# Altium footprint library Inductor_PcbLib.PcbLib: 11 footprints
Each footprint in its own frame and in the unit in brackets; x right, y up, seen from the top. Pads: shape width x height; smd on the part's side, far side on the other; paste and mask are expansions set on the pad; w line width, h text height; cw(c..) or ccw(c..) is an arc to the next point about the centre after c.
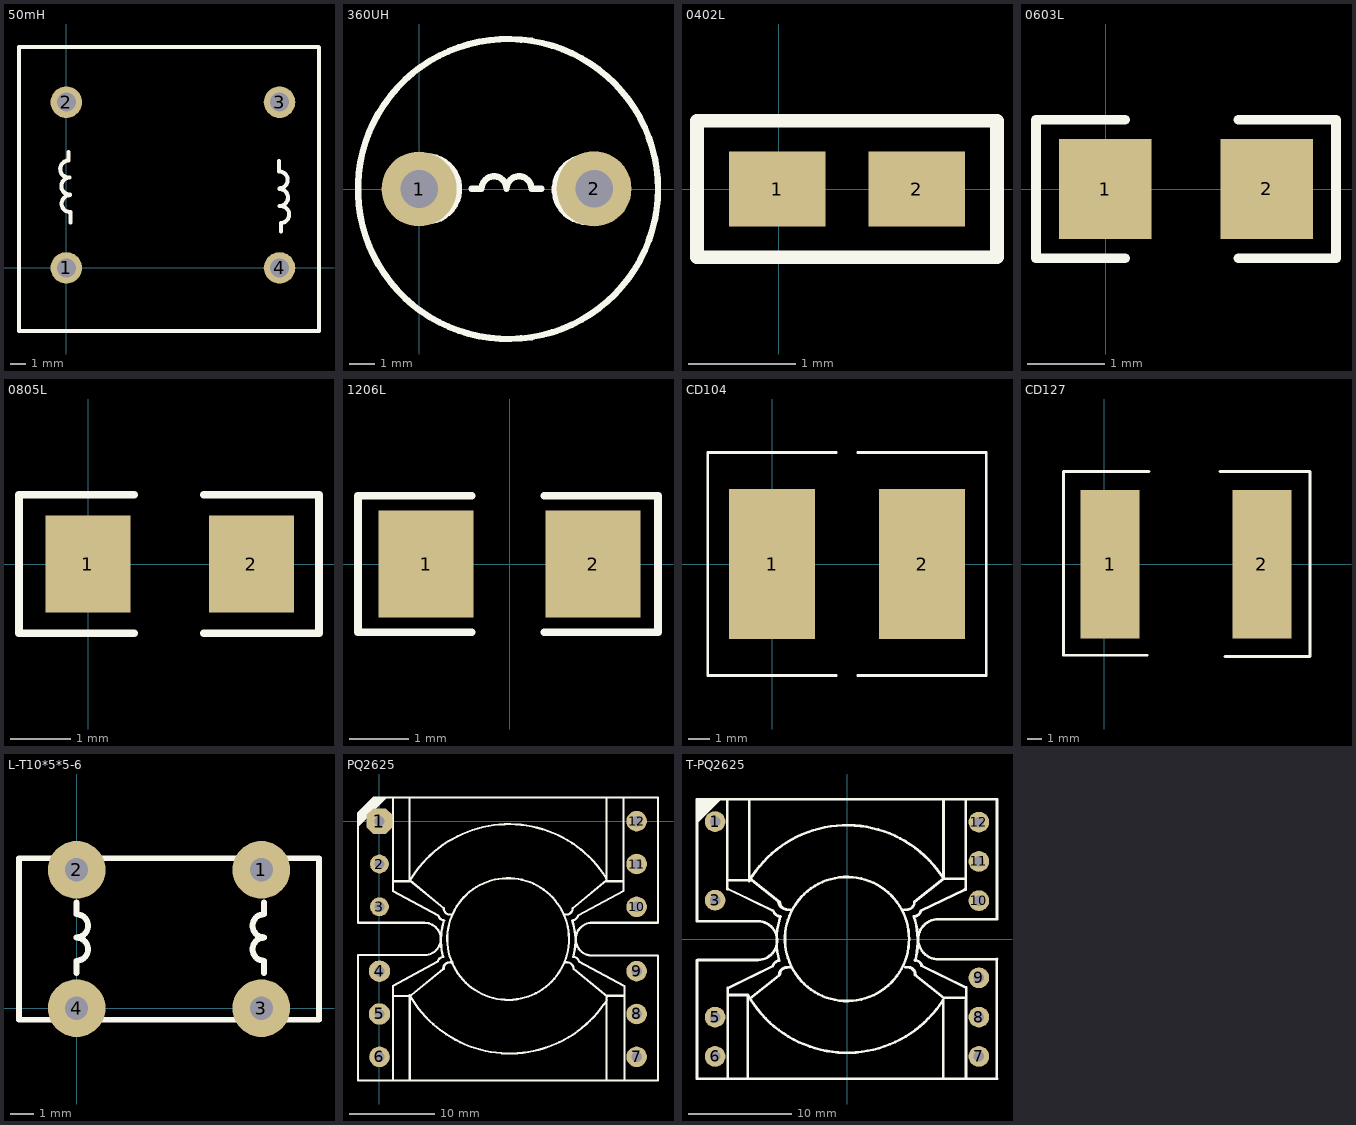
[diagram p0: the footprints below, top view; thin cyan lines are the x and y axes]

## 50mH [mm] "共模电感"
pads (4):
  round 2 hole 1.2: 1(0,0) 2(0,10.5) 3(13.5,10.5) 4(13.5,0)
Top Overlay:
  lines w0.254: 0.138,7.356 0.138,6.803 ccw(c0.148,6.266) 0.159,5.729 ; 0.208,5.723 ccw(c0.218,5.186) 0.229,4.649 ; 0.228,4.613 ccw(c0.238,4.076) 0.249,3.539 0.249,2.878 ; 13.467,6.774 13.467,6.113 cw(c13.478,5.576) 13.488,5.039 ; 13.487,5.003 cw(c13.498,4.466) 13.508,3.929 ; 13.557,3.923 cw(c13.568,3.386) 13.578,2.849 13.578,2.296 ; -3,-4 -3,14 13.932,14 15.972,14 16,13.972 16,-4 -3,-4

## 360UH [mm]
pads (2):
  round 3 hole 1.5: 1(0,0) 2(6.998,0.007)
Top Overlay:
  circle w0.254: c3.556,0 r6
  lines w0.254: 0.298,-1.293 ccw(c0.298,0.007) 0.298,1.307 ; 2.098,0.007 2.498,0.007 cw(c2.998,0.007) 3.498,0.007 cw(c3.998,0.007) 4.498,0.007 4.898,0.007 ; 6.729,-1.319 cw(c6.729,-0.019) 6.729,1.281

## 0402L [mm] "Chip Capacitor; Body 1.0 x 0.5 mm (LxW typ)"
height 0.55
pads (2):
  rect 0.9x0.7 smd: 1(-0.015,0) 2(1.285,0)
Top Overlay:
  lines w0.127: -0.762,-0.635 2.032,-0.635 2.032,0.635 -0.762,0.635 -0.762,0.135 -0.762,-0.635

## 0603L [mm]
pads (2):
  rect 1.2x1.3 smd: 1(-0.006,0.002) 2(2.094,0.002)
Top Overlay:
  lines w0.127: 0.254,-0.898 -0.906,-0.898 -0.906,0.902 0.254,0.902 ; 1.727,-0.898 2.994,-0.898 2.994,0.902 1.727,0.902

## 0805L [mm]
pads (2):
  rect 1.4x1.6 smd: 1(-0.006,-0.001) 2(2.694,-0.001)
Top Overlay:
  lines w0.127: 0.762,-1.143 -1.143,-1.143 -1.143,1.143 0.762,1.143 ; 1.905,-1.143 3.81,-1.143 3.81,1.143 1.905,1.143

## 1206L [mm] "Chip Capacitor; Body 3.2 x 1.6 mm (LxW typ)"
height 1.3
pads (2):
  rect 1.6x1.8 smd: 1(-1.4,0) 2(1.4,0)
Top Overlay:
  lines w0.127: -0.635,-1.143 -2.54,-1.143 -2.54,1.143 -0.635,1.143 ; 0.584,-1.143 2.489,-1.143 2.489,1.143 0.584,1.143

## CD104 [mm]
pads (2):
  rect 4x7 smd: 1(0,0) 2(7,0)
Top Overlay:
  lines w0.127: 3,-5.2 -3,-5.2 -3,5.2 3,5.2 ; 4,-5.2 10,-5.2 10,5.2 4,5.2

## CD127 [mm]
pads (2):
  rect 4x10 smd: 1(0.4,-0.005) 2(10.662,-0.005)
Top Overlay:
  lines w0.2: -2.749,-6.152 2.915,-6.152 ; -2.749,6.248 3.047,6.248 ; 7.821,6.247 13.913,6.247 ; 8.173,-6.228 13.913,-6.228
  lines w0.203: -2.749,-6.152 -2.749,6.248 ; 13.913,-6.228 13.913,6.247

## L-T10*5*5-6 [mm]
pads (4):
  round 2.5 hole 1: 1(8.006,5.991) 2(0.006,5.991) 3(8.006,-0.009) 4(0.006,-0.009)
Top Overlay:
  lines w0.254: 0,1.524 0,2.024 ; 0,2.048 ccw(c0,2.548) 0,3.048 ; 0,3.064 ccw(c0,3.564) 0,4.064 ; 0,4.072 0,4.572 ; 8.128,1.524 8.128,2.024 ; 8.128,2.048 cw(c8.128,2.548) 8.128,3.048 ; 8.128,3.064 cw(c8.128,3.564) 8.128,4.064 ; 8.128,4.072 8.128,4.572 ; -2.494,-0.509 -2.494,6.491 10.506,6.491 10.506,-0.509 -2.494,-0.509

## PQ2625 [mm] "高频变压器"
pads (12):
  oct 3x3 hole 1.2: 1(0.011,0.003)
  round 2.2 hole 1.2: 2(0.011,-4.997) 3(0.011,-9.997)
  round 2.5 hole 1.2: 4(0.011,-17.497) 5(0.011,-22.497)
  round 2.4 hole 1.2: 6(0.011,-27.497) 7(30.011,-27.497) 8(30.011,-22.497) 9(30.011,-17.497) 10(30.011,-9.997) 11(30.011,-4.997) 12(30.011,0.003)
Top Overlay:
  lines w0.254: -2.494,-15.654 -2.494,-30.247 2.096,-30.247 27.926,-30.247 32.506,-30.247 32.506,-15.709 ; -2.494,-15.617 5.282,-15.617 ccw(c5.282,-13.737) 5.282,-11.858 -2.494,-11.858 -2.494,-0.25 ; -2.494,-0.496 0.755,2.753 1.029,2.753 ; 1.574,-30.247 1.574,-19.249 6.806,-16.379 cw(c7.531,-16.573) 7.443,-15.828 ; 1.574,-20.392 3.431,-20.392 ; 1.574,-7.006 3.507,-7.006 3.516,2.727 ; 1.574,2.702 1.574,-8.124 6.883,-11.02 ccw(c7.607,-10.825) 7.562,-11.574 ccw(c14.537,-13.899) 7.444,-15.836 ; 2.876,2.753 3.593,2.753 ; 3.498,-20.485 7.431,-17.241 cw(c8.181,-17.241) 8.181,-16.491 8.432,-16.491 ; 3.539,-30.247 3.539,-20.289 ccw(c15.208,-13.701) 26.533,-20.863 ; 7.507,-17.211 cw(c8.257,-17.211) 8.257,-16.461 8.508,-16.461 ; 8.508,-10.907 8.257,-10.907 cw(c8.257,-10.157) 7.507,-10.157 3.575,-6.914 cw(c15.102,-13.746) 26.47,-6.652 ; 21.549,-10.907 21.801,-10.907 ccw(c21.801,-10.157) 22.551,-10.157 26.483,-6.914 ; 21.646,-16.461 21.898,-16.461 cw(c21.898,-17.211) 22.648,-17.211 26.58,-20.455 ; 21.934,-12.142 ccw(c15.018,-13.747) 21.974,-12.324 ; 22.593,-15.794 cw(c22.547,-16.543) 23.272,-16.349 28.58,-19.244 28.58,-30.241 ; 22.614,-15.836 ccw(c15.52,-13.899) 22.496,-11.574 ccw(c22.45,-10.825) 23.175,-11.02 28.484,-8.124 28.483,2.738 ; 26.511,-30.216 26.511,-20.367 ; 26.511,-7.006 26.511,2.722 ; 26.551,-7.006 28.483,-7.006 ; 26.648,-20.362 28.58,-20.362 ; 32.506,-15.693 24.917,-15.691 cw(c24.831,-13.768) 24.893,-11.844 32.506,-11.844 32.506,2.753 27.926,2.753 16.386,2.753 13.636,2.753 2.096,2.753 0.509,2.753 ; -2.494,-0.25 -2.494,-0.013 ; -2.494,-0.25 0.509,2.753 ; -2.494,-0.013 -2.494,0.215 ; -2.494,-0.013 0.272,2.753 ; -2.494,0.215 -2.494,0.469 ; -2.494,0.215 0.043,2.753 ; -2.494,0.469 -2.494,0.698 ; -2.494,0.469 -0.211,2.753 ; -2.494,0.698 -2.494,0.926 -0.668,2.753 -0.439,2.753 ; -2.494,0.698 -0.439,2.753 ; -0.439,2.753 -0.211,2.753 ; -0.211,2.753 0.043,2.753 ; 0.043,2.753 0.272,2.753 ; 0.272,2.753 0.509,2.753

## T-PQ2625 [mm]
pads (28):
  round 2 hole 1: 1(-12.75,11.35) 3(-12.75,3.75) 5(-12.75,-7.55) 6(-12.75,-11.35) 7(12.75,-11.35) 8(12.75,-7.55) 9(12.75,-3.75) 10(12.75,3.7) 11(12.75,7.5) 12(12.75,11.3)
  round 0 all layers, no hole: 2(-12.75,7.55) 4(-12.75,-3.75) 4(-12.75,-3.75) 4(12.75,-3.75) 4(12.75,11.3) 4(12.8,3.75) 5(-12.75,-7.55) 5(12.75,-7.55) 5(12.75,7.5) 5(12.8,7.55) 6(-12.75,-11.35) 6(12.75,-11.35) 6(12.75,3.7) 6(12.8,11.35) 9(12.75,-3.75) 10(12.75,3.75) 11(12.75,7.55) 12(12.75,11.55)
Top Overlay:
  circle w0.254: c0,0 r6
  lines w0.254: -14.5,-2.057 -14.5,-13.5 14.5,-13.5 ; -14.5,11.328 -14.491,11.328 -12.344,13.475 -12.916,13.475 -14.478,11.913 -14.478,12.192 -13.208,13.462 -13.437,13.462 -14.427,12.471 -14.427,12.738 -13.665,13.5 -13.881,13.5 -14.453,12.929 -14.453,13.208 -14.224,13.437 ; -14.5,11.608 -14.491,11.608 -12.598,13.5 ; -14.453,-2.032 -8.636,-2.032 ccw(c-8.636,-0.152) -8.636,1.727 -14.5,1.727 -14.5,13.5 14.5,13.5 14.5,1.905 ; -13.063,13.477 -12.789,13.477 ; -11.582,5.609 -11.582,13.5 ; -11.575,4.833 -11.575,6.147 ; -11.532,-13.5 -11.532,-5.461 -11.478,-5.408 -9.579,-5.408 ; -11.524,-6.02 -11.524,-4.706 ; -11.506,5.69 -9.331,5.69 ; -11.502,4.831 -7.249,2.779 ; -11.451,-4.704 -7.198,-2.652 ; -9.579,-13.497 -9.579,-5.408 ; -9.474,13.5 -9.463,13.488 -9.463,5.609 cw(c0,0) 9.332,5.824 ; -9.432,5.871 -6.625,3.653 -6.625,3.641 ccw(c-5.875,3.641) -5.875,2.891 ; -9.381,-5.744 -6.574,-3.526 -6.574,-3.514 cw(c-5.824,-3.514) -5.824,-2.764 ; -7.189,-2.632 cw(c-6.464,-2.826) -6.552,-2.081 ; -7.113,2.728 ccw(c-6.388,2.922) -6.434,2.173 ccw(c0.542,-0.152) -6.551,-2.088 ; -6.565,-3.494 cw(c-5.815,-3.494) -5.815,-2.744 -5.563,-2.744 ; -6.489,-3.464 cw(c-5.739,-3.464) -5.739,-2.714 -5.487,-2.714 ; -6.489,3.59 ccw(c-5.739,3.59) -5.739,2.84 -5.487,2.84 ; 5.522,2.84 5.773,2.84 ccw(c5.773,3.59) 6.524,3.59 6.524,3.603 9.33,5.82 ; 5.619,-2.714 5.87,-2.714 cw(c5.87,-3.464) 6.62,-3.464 ; 5.824,-2.713 cw(c5.824,-3.463) 6.574,-3.463 6.574,-3.476 9.381,-5.693 ; 6.565,-2.047 cw(c6.52,-2.795) 7.244,-2.601 ; 6.586,-2.088 ccw(c-0.507,-0.152) 6.469,2.173 ccw(c6.423,2.922) 7.148,2.728 ; 9.297,-13.499 9.297,-5.879 cw(c0,0) -9.579,-5.408 ; 9.332,13.49 9.332,5.824 ; 9.382,-5.697 11.524,-5.697 ; 10.236,5.817 10.236,5.824 ; 10.287,-5.697 10.287,-5.69 ; 11.4,4.78 7.148,2.728 ; 11.451,-4.653 7.198,-2.601 ; 11.473,4.783 11.473,6.096 ; 11.473,13.493 11.473,5.824 9.332,5.824 ; 11.506,-13.5 11.506,-5.905 ; 11.524,-5.969 11.524,-4.656 ; 14.478,-13.5 14.487,-13.491 14.487,-1.944 ; 14.498,1.903 8.866,1.903 ccw(c8.803,-0.021) 8.889,-1.944 14.487,-1.944 ; 14.5,-1.93 14.487,-1.944 ; -7.249,2.779 -7.249,2.779 ; -7.198,-2.652 -7.198,-2.652 ; 7.148,2.728 7.148,2.728 ; 7.198,-2.601 7.198,-2.601